# EAGLE library part LTC2251 (library components)
LTC2251 125MSPS Pipelined ADC
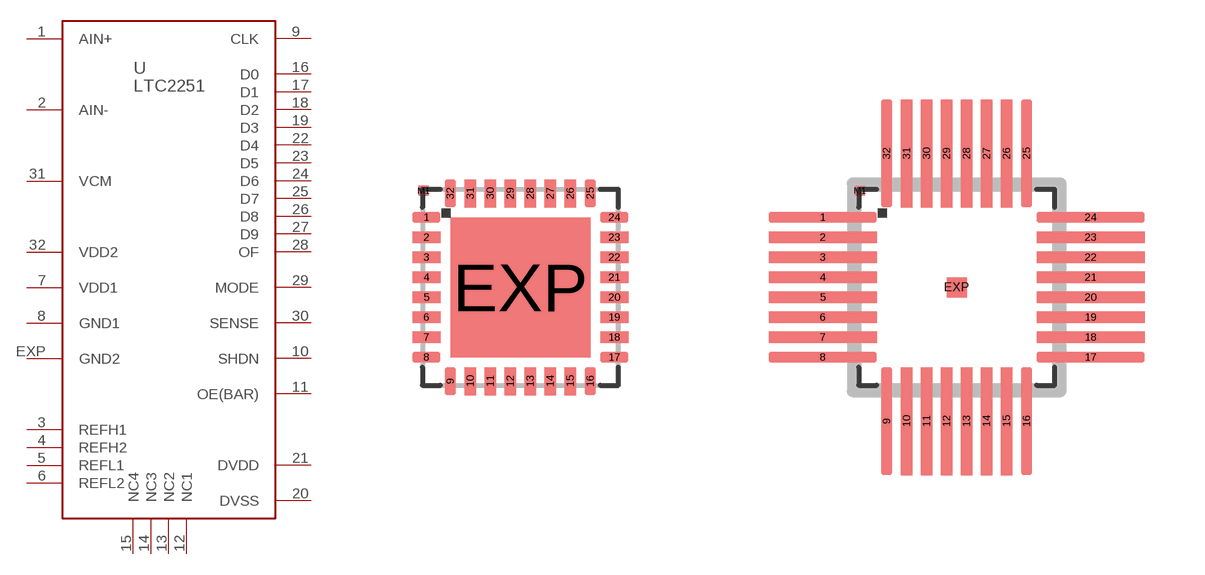
[diagram p0: symbol with the pads of HVQFN32; footprints HVQFN32, HVQFN32_LONG]

Designator prefix -

## LTC2251HVQFN32  [HVQFN32]
1  AIN+
2  AIN-
3  REFH1
4  REFH2
5  REFL1
6  REFL2
7  VDD1
8  GND1
9  CLK
10  SHDN
11  OE(BAR)
12  NC1
13  NC2
14  NC3
15  NC4
16  D0
17  D1
18  D2
19  D3
20  DVSS
21  DVDD
22  D4
23  D5
24  D6
25  D7
26  D8
27  D9
28  OF
29  MODE
30  SENSE
31  VCM
32  VDD2
EXP  GND2

## LTC2251HVQFN32_L  [HVQFN32_LONG]
1  AIN+
2  AIN-
3  REFH1
4  REFH2
5  REFL1
6  REFL2
7  VDD2
8  GND1
9  CLK
10  SHDN
11  OE(BAR)
12  NC1
13  NC2
14  NC3
15  NC4
16  D0
17  D1
18  D2
19  D3
20  DVSS
21  DVDD
22  D4
23  D5
24  D6
25  D7
26  D8
27  D9
28  OF
29  MODE
30  SENSE
31  VCM
32  VDD1
EXP  GND2

## Footprint HVQFN32 (pad centres in mm)
HVQFN32 (SOT617-3) 5 x 5 x .85 mm, Pitch 0.5mm Source: http://www.semiconductors.philips.com/acrobat_download/datasheets/TDA9885_TDA9886_2.pdf
smd 0.7 x 0.28: 1 -2.35,1.75; 2 -2.35,1.25; 3 -2.35,0.75; 4 -2.35,0.25; 5 -2.35,-0.25; 6 -2.35,-0.75; 7 -2.35,-1.25; 8 -2.35,-1.75; 17 2.35,-1.75; 18 2.35,-1.25; 19 2.35,-0.75; 20 2.35,-0.25; 21 2.35,0.25; 22 2.35,0.75; 23 2.35,1.25; 24 2.35,1.75
smd 0.28 x 0.7: 9 -1.75,-2.35; 10 -1.25,-2.35; 11 -0.75,-2.35; 12 -0.25,-2.35; 13 0.25,-2.35; 14 0.75,-2.35; 15 1.25,-2.35; 16 1.75,-2.35; 25 1.75,2.35; 26 1.25,2.35; 27 0.75,2.35; 28 0.25,2.35; 29 -0.25,2.35; 30 -0.75,2.35; 31 -1.25,2.35; 32 -1.75,2.35
smd 3.5 x 3.5: EXP 0,0
smd 0.25 x 0.25: M1 -2.415,2.415

## Footprint HVQFN32_LONG (pad centres in mm)
HVQFN32 (SOT617-3) 5 x 5 x .85 mm, Pitch 0.5mm Source: http://www.semiconductors.philips.com/acrobat_download/datasheets/TDA9885_TDA9886_2.pdf
smd 2.7 x 0.28: 1 -3.35,1.75; 2 -3.35,1.25; 3 -3.35,0.75; 4 -3.35,0.25; 5 -3.35,-0.25; 6 -3.35,-0.75; 7 -3.35,-1.25; 8 -3.35,-1.75; 17 3.35,-1.75; 18 3.35,-1.25; 19 3.35,-0.75; 20 3.35,-0.25; 21 3.35,0.25; 22 3.35,0.75; 23 3.35,1.25; 24 3.35,1.75
smd 0.28 x 2.7: 9 -1.75,-3.35; 10 -1.25,-3.35; 11 -0.75,-3.35; 12 -0.25,-3.35; 13 0.25,-3.35; 14 0.75,-3.35; 15 1.25,-3.35; 16 1.75,-3.35; 25 1.75,3.35; 26 1.25,3.35; 27 0.75,3.35; 28 0.25,3.35; 29 -0.25,3.35; 30 -0.75,3.35; 31 -1.25,3.35; 32 -1.75,3.35
smd 0.5 x 0.5: EXP 0,0
smd 0.25 x 0.25: M1 -2.415,2.415